# EAGLE library part DAC-AD56X4 (library usbxlater)
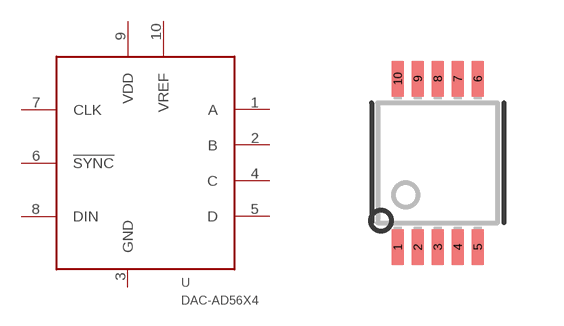
[diagram p7: symbol with the pads of MSOP-10; footprint MSOP-10]

Designator prefix U

## DAC-AD56X4-MSOP10  [MSOP-10]
1  A  out
2  B  out
3  GND
4  C  out
5  D  out
6  !SYNC
7  CLK
8  DIN
9  VDD
10  VREF

## Footprint MSOP-10 (pad centres in mm)
smd 0.305 x 0.889: 1 -1,-2.11; 2 -0.5,-2.11; 3 0,-2.11; 4 0.5,-2.11; 5 1,-2.11; 6 1,2.11; 7 0.5,2.11; 8 0,2.11; 9 -0.5,2.11; 10 -1,2.11